# Altium schematic symbol library ARM_Libary_EURO.SchLib: 98 symbols
Pins are listed as number, name and electrical type; pins without a type are passive.

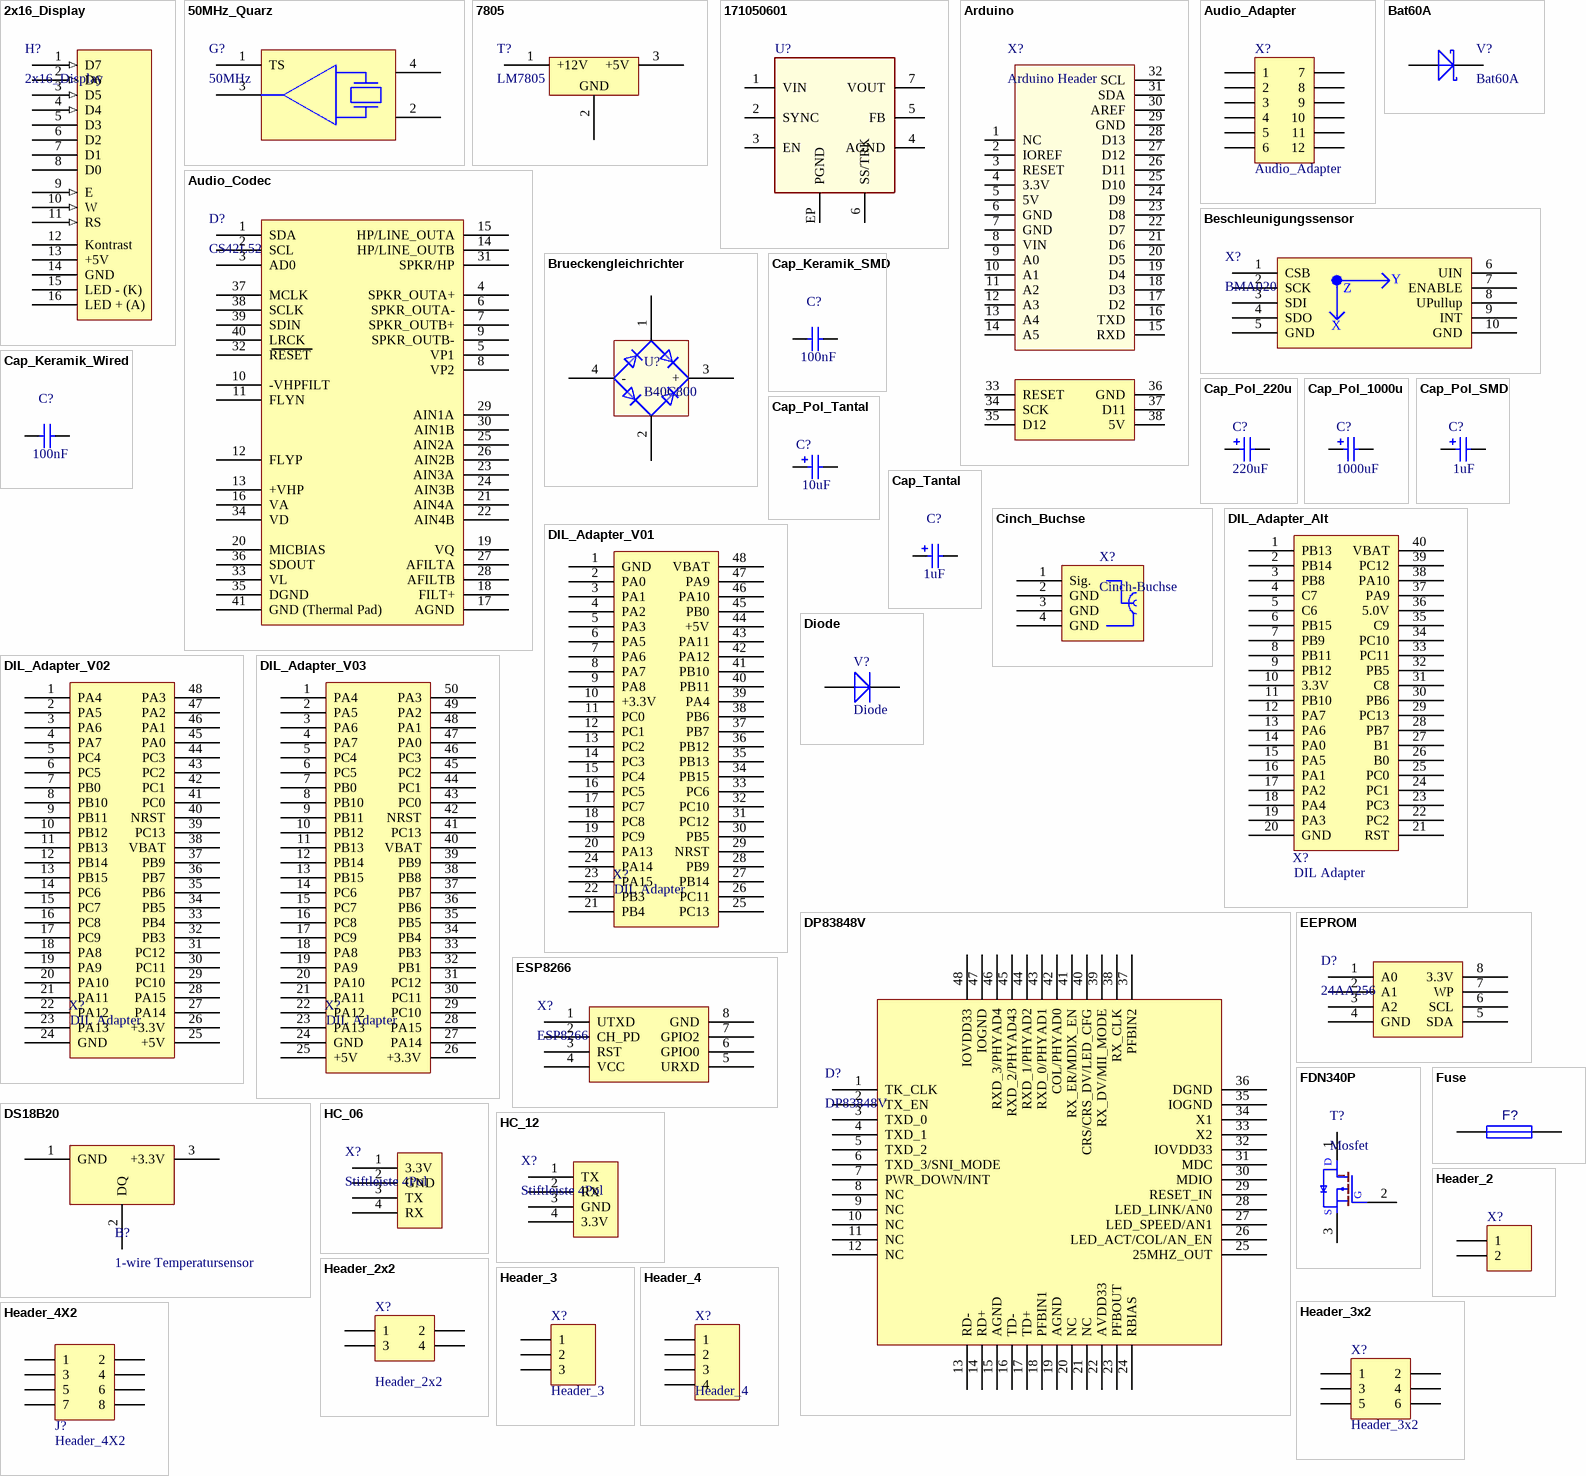
[diagram p0: symbols 2x16_Display to Header_4X2]

## 2x16_Display
designator H?
2 Zeilen Display
footprint LCD_Display
pins: 1 D7 (in), 2 D6 (in), 3 D5 (in), 4 D4 (in), 5 D3, 6 D2, 7 D1, 8 D0, 9 E (in), 10 W (in), 11 RS (in), 12 Kontrast (power), 13 +5V (power), 14 GND (power), 15 LED - (K), 16 LED + (A)

## 50MHz_Quarz
designator G?, comment 50MHz
50MHz Quarz
footprint 50MHz_Quarz (50MHz Quarz)
pins: 1 TS, 2, 3, 4

## 7805
designator T?, comment LM7805
5V Fixspannungsregler
footprint 7805 (+5V Fixspannungsregler)
pins: 1 +12V, 2 GND, 3 +5V

## 171050601
designator U?
VDRM Variable Step Down Regulator Module, TO263-7EP; PartNumber: 171050601; OutputCurrent: 5A; InputVoltage: 6-36 V(DC); PublishedDate: Aug 2016; Publisher: Wurth Elektronik; ComponentLink1Description: Manufacturer; ComponentLink1URL: http://www.we-online.de; ComponentLink2Description: Datasheet; ComponentLink2URL: http://katalog.we-online.de/pm/datasheet/171050601.pdf; Size: TO263-7EP
footprint TO263-7EP (SMD, 7-Leads, Body 10.4x10.1mm (max), Pitch 1.27mm, IPC Medium Density)
footprint TO263-7EP (SMD, 7-Leads, Body 10.4x10.1mm (max), Pitch 1.27mm, IPC Medium Density)
pins: 1 VIN, 2 SYNC, 3 EN, 4 AGND, 5 FB, 6 SS/TRK, 7 VOUT, EP PGND

## Arduino
designator X?, comment Arduino Header
footprint Arduino
pins: 1 NC, 2 IOREF, 3 RESET, 4 3.3V, 5 5V, 6 GND, 7 GND, 8 VIN, 9 A0, 10 A1, 11 A2, 12 A3, 13 A4, 14 A5, 15 RXD, 16 TXD, 17 D2, 18 D3, 19 D4, 20 D5, 21 D6, 22 D7, 23 D8, 24 D9, 25 D10, 26 D11, 27 D12, 28 D13, 29 GND, 30 AREF, 31 SDA, 32 SCL, 33 RESET, 34 SCK, 35 D12, 36 GND, 37 D11, 38 5V

## Audio_Adapter
designator X?
Header, 6-Pin, Dual row; LatestRevisionDate: 17-Jul-2002; LatestRevisionNote: Re-released for DXP Platform.; Publisher: Altium Limited
footprint AUDIO_ADAPTER (Adapter-Connector)
signal-integrity model Connector
pins: 1, 2, 3, 4, 5, 6, 7, 8, 9, 10, 11, 12

## Audio_Codec
designator D?, comment CS42L52
Audio Controller
footprint Audio_Codec (QFN, 40-Leads, Body 6,0x6,0mm (max), Pitch 0,50mm, IPC Low Density)
pins: 1 SDA, 2 SCL, 3 AD0, 4 SPKR_OUTA+, 5 VP1, 6 SPKR_OUTA-, 7 SPKR_OUTB+, 8 VP2, 9 SPKR_OUTB-, 10 -VHPFILT, 11 FLYN, 12 FLYP, 13 +VHP, 14 HP/LINE_OUTB, 15 HP/LINE_OUTA, 16 VA, 17 AGND, 18 FILT+, 19 VQ, 20 MICBIAS, 21 AIN4A, 22 AIN4B, 23 AIN3A, 24 AIN3B, 25 AIN2A, 26 AIN2B, 27 AFILTA, 28 AFILTB, 29 AIN1A, 30 AIN1B, 31 SPKR/HP, 32 RESET, 33 VL, 34 VD, 35 DGND, 36 SDOUT, 37 MCLK, 38 SCLK, 39 SDIN, 40 LRCK, 41 GND (Thermal Pad)

## Bat60A
designator V?
Diode
footprint BAT60A
footprint BAT254_Schottky
pins: 1, 2

## Beschleunigungssensor
designator X?, comment BMA020
3-Achsen Beschleunigungssensor-Modul; Hersteller: ELV Electronics
footprint Beschleunigungssensor (BMA020-Modul (ELV Electronics))
pins: 1 CSB, 2 SCK, 3 SDI, 4 SDO, 5 GND, 6 UIN, 7 ENABLE, 8 UPullup, 9 INT, 10 GND
text: Y; Z; X

## Brueckengleichrichter
designator U?, comment B40C800
Brueckengleichrichter
footprint Diodengleichrichter (B40C800)
pins: 1, 2, 3 +, 4 -

## Cap_Keramik_SMD
designator C?  value 100nF  (hidden comment: Cap_Keramik_SMD)
Capacitor_SMD; Published: 8-Jun-2000; LatestRevisionDate: 17-Jul-2002; LatestRevisionNote: Re-released for DXP Platform.; PackageReference: RAD-0.3; Publisher: Altium Limited
simulation model CAP (Capacitor)
signal-integrity model Cap
footprint 0805_CAP
footprint 0603_CAP
pins: 1, 2

## Cap_Keramik_Wired
designator C?  value 100nF  (hidden comment: Cap_Keramik_Wired)
Capacitor_Wired; Published: 8-Jun-2000; LatestRevisionDate: 17-Jul-2002; LatestRevisionNote: Re-released for DXP Platform.; PackageReference: RAD-0.3; Publisher: Altium Limited
simulation model CAP (Capacitor)
signal-integrity model Cap
footprint Cap_Wired (Capacitor, Ceramic, Thru-Hole, Dipped Radial; Body 4 x 2.5 mm (WxT) Pin Spacing 2.54 mm (typ))
pins: 1, 2

## Cap_Pol_220u
designator C?  value 220uF  (hidden comment: Cap_Pol_220u)
Polarized Capacitor 220µF/16V; Published: 8-Jun-2000; LatestRevisionDate: 17-Jul-2002; LatestRevisionNote: Re-released for DXP Platform.; PackageReference: RB7.6-15; Publisher: Altium Limited
simulation model CAP (Capacitor)
signal-integrity model Cap Pol
footprint CAPPOL_220uF (CAP 220uF)
pins: 1, 2
1 alternate drawing of the same symbol

## Cap_Pol_1000u
designator C?  value 1000uF  (hidden comment: Cap_Pol_1000u)
Polarized Capacitor 1000µF/16V; Published: 8-Jun-2000; LatestRevisionDate: 17-Jul-2002; LatestRevisionNote: Re-released for DXP Platform.; PackageReference: RB7.6-15; Publisher: Altium Limited
footprint Polyfuse
pins: 1, 2
1 alternate drawing of the same symbol

## Cap_Pol_SMD
designator C?  value 1uF  (hidden comment: Cap_Pol_SMD)
Polarized Capacitor SMD; Published: 8-Jun-2000; LatestRevisionDate: 17-Jul-2002; LatestRevisionNote: Re-released for DXP Platform.; PackageReference: RB7.6-15; Publisher: Altium Limited
simulation model CAP (Capacitor)
signal-integrity model Cap Pol
footprint 1411_Cap_Pol
footprint 100µF_16V_Kondensator
footprint CAP_POL_SMD_1500uF (Aluminum Electrolytic Capacitor, Body 17,00x17,00x17,00mm, IPC Low Density)
pins: 1, 2
1 alternate drawing of the same symbol

## Cap_Pol_Tantal
designator C?  value 10uF  (hidden comment: Cap_Pol_Tantal)
Polarized Capacitor; Published: 8-Jun-2000; LatestRevisionDate: 17-Jul-2002; LatestRevisionNote: Re-released for DXP Platform.; PackageReference: RB7.6-15; Publisher: Altium Limited
footprint 1411_Cap_Pol_Tantal
pins: 1, 2
1 alternate drawing of the same symbol

## Cap_Tantal
designator C?, comment value 1uF  (hidden comment: Cap Tantal)
Capacitor; Published: 8-Jun-2000; LatestRevisionDate: 17-Jul-2002; LatestRevisionNote: Re-released for DXP Platform.; PackageReference: RAD-0.3; Publisher: Altium Limited
simulation model CAP (Capacitor)
signal-integrity model Cap
footprint Cap_Pol_Tantal (Capacitor, Electrolytic, Radial; Body 5 x 11 mm (Dia.xH typ); Pin Spacing 2 mm (typ))
pins: 1, 2

## Cinch_Buchse
designator X?, comment Cinch-Buchse
Cinch Buchse Single
footprint Audio_Cinch (Audio Cinch Buchse)
pins: 1 Sig., 2 GND, 3 GND, 4 GND

## DIL_Adapter_Alt
designator X?, comment DIL Adapter
DIL Adapter Alt
footprint DIL_Adapter_Alt
pins: 1 PB13, 2 PB14, 3 PB8, 4 C7, 5 C6, 6 PB15, 7 PB9, 8 PB11, 9 PB12, 10 3.3V, 11 PB10, 12 PA7, 13 PA6, 14 PA0, 15 PA5, 16 PA1, 17 PA2, 18 PA4, 19 PA3, 20 GND, 21 RST, 22 PC2, 23 PC3, 24 PC1, 25 PC0, 26 B0, 27 B1, 28 PB7, 29 PC13, 30 PB6, 31 C8, 32 PB5, 33 PC11, 34 PC10, 35 C9, 36 5.0V, 37 PA9, 38 PA10, 39 PC12, 40 VBAT

## DIL_Adapter_V01
designator X?, comment DIL Adapter
footprint DIL_Adapter_V01
pins: 1 GND, 2 PA0, 3 PA1, 4 PA2, 5 PA3, 6 PA5, 7 PA6, 8 PA7, 9 PA8, 10 +3.3V, 11 PC0, 12 PC1, 13 PC2, 14 PC3, 15 PC4, 16 PC5, 17 PC7, 18 PC8, 19 PC9, 20 PA13, 21 PB4, 22 PB3, 23 PA15, 24 PA14, 25 PC13, 26 PC11, 27 PB14, 28 PB9, 29 NRST, 30 PB5, 31 PC12, 32 PC10, 33 PC6, 34 PB15, 35 PB13, 36 PB12, 37 PB7, 38 PB6, 39 PA4, 40 PB11, 41 PB10, 42 PA12, 43 PA11, 44 +5V, 45 PB0, 46 PA10, 47 PA9, 48 VBAT

## DIL_Adapter_V02
designator X?, comment DIL Adapter
DIL Adapter 48 Pin
footprint DIL_Adapter_V02 (DIL_Adapter)
pins: 1 PA4, 2 PA5, 3 PA6, 4 PA7, 5 PC4, 6 PC5, 7 PB0, 8 PB10, 9 PB11, 10 PB12, 11 PB13, 12 PB14, 13 PB15, 14 PC6, 15 PC7, 16 PC8, 17 PC9, 18 PA8, 19 PA9, 20 PA10, 21 PA11, 22 PA12, 23 PA13, 24 GND, 25 +5V, 26 +3.3V, 27 PA14, 28 PA15, 29 PC10, 30 PC11, 31 PC12, 32 PB3, 33 PB4, 34 PB5, 35 PB6, 36 PB7, 37 PB9, 38 VBAT, 39 PC13, 40 NRST, 41 PC0, 42 PC1, 43 PC2, 44 PC3, 45 PA0, 46 PA1, 47 PA2, 48 PA3

## DIL_Adapter_V03
designator X?, comment DIL Adapter
DIL Adapter 50 Pin
footprint DIL_Adapter_V03 (DIL_Adapter)
pins: 1 PA4, 2 PA5, 3 PA6, 4 PA7, 5 PC4, 6 PC5, 7 PB0, 8 PB10, 9 PB11, 10 PB12, 11 PB13, 12 PB14, 13 PB15, 14 PC6, 15 PC7, 16 PC8, 17 PC9, 18 PA8, 19 PA9, 20 PA10, 21 PA11, 22 PA12, 23 PA13, 24 GND, 25 +5V, 26 +3.3V, 27 PA14, 28 PA15, 29 PC10, 30 PC11, 31 PC12, 32 PB1, 33 PB3, 34 PB4, 35 PB5, 36 PB6, 37 PB7, 38 PB8, 39 PB9, 40 VBAT, 41 PC13, 42 NRST, 43 PC0, 44 PC1, 45 PC2, 46 PC3, 47 PA0, 48 PA1, 49 PA2, 50 PA3

## Diode
designator V?
Schottky Diode; Published: 8-Jun-2000; LatestRevisionDate: 17-Jul-2002; LatestRevisionNote: Re-released for DXP Platform.; PackageReference: SMB; Publisher: Altium Limited; Code_JEDEC: DO-214-AA
footprint Diode (Diode, Axial; Body 5.2 x 2.7 mm (LxDia. max), Lead Dia. 0.86 mm (max))
pins: 1 A, 2 K

## DP83848V
designator D?
Ethernet Controller
footprint Ethernet_Controller (DP83848VYB)
pins: 1 TK_CLK, 2 TX_EN, 3 TXD_0, 4 TXD_1, 5 TXD_2, 6 TXD_3/SNI_MODE, 7 PWR_DOWN/INT, 8 NC, 9 NC, 10 NC, 11 NC, 12 NC, 13 RD-, 14 RD+, 15 AGND, 16 TD-, 17 TD+, 18 PFBIN1, 19 AGND, 20 NC, 21 NC, 22 AVDD33, 23 PFBOUT, 24 RBIAS, 25 25MHZ_OUT, 26 LED_ACT/COL/AN_EN, 27 LED_SPEED/AN1, 28 LED_LINK/AN0, 29 RESET_IN, 30 MDIO, 31 MDC, 32 IOVDD33, 33 X2, 34 X1, 35 IOGND, 36 DGND, 37 PFBIN2, 38 RX_CLK, 39 RX_DV/MII_MODE, 40 CRS/CRS_DV/LED_CFG, 41 RX_ER/MDIX_EN, 42 COL/PHYAD0, 43 RXD_0/PHYAD1, 44 RXD_1/PHYAD2, 45 RXD_2/PHYAD43, 46 RXD_3/PHYAD4, 47 IOGND, 48 IOVDD33

## DS18B20
designator B?, comment 1-wire Temperatursensor
Temperatursensor
footprint TO_92 (TO, Flat Index; 3 In-Line, Axial Leads; Body Dia. 5.1mm; Leads 0.48 x 0.48 mm (max))
pins: 1 GND, 2 DQ, 3 +3.3V

## EEPROM
designator D?, comment 24AA256
32kx8 EEPROM
footprint PDIP8 (EEPROM)
pins: 1 A0, 2 A1, 3 A2, 4 GND, 5 SDA, 6 SCL, 7 WP, 8 3.3V

## ESP8266
designator X?
W-LAN Modul
footprint ESP8266
pins: 1 UTXD, 2 CH_PD, 3 RST, 4 VCC, 5 URXD, 6 GPIO0, 7 GPIO2, 8 GND

## FDN340P
designator T?, comment Mosfet
P-Kanal Mosfet
footprint SOT_23 (SOT23, 3-Leads, Body 2,90x2,30mm, Pitch 0,95mm, IPC Medium Density)
pins: 1 D, 2 G, 3 S

## Fuse
designator F?  (value not drawn)
Published: 8-Jun-2000; LatestRevisionDate: 17-Jul-2002; LatestRevisionNote: Re-released for DXP Platform.; PackageReference: PIN-W2/E2.8; Publisher: Altium Limited
footprint Polyfuse
pins: 1, 2

## HC_06
designator X?, comment Stiftleiste 4Pol
footprint UART_Interface
pins: 1 3.3V, 2 GND, 3 TX, 4 RX

## HC_12
designator X?, comment Stiftleiste 4Pol
footprint HC_12
pins: 1 TX, 2 RX, 3 GND, 4 3.3V

## Header_2
designator X?, comment Header  (value not drawn)
Header, 2-Pin; LatestRevisionDate: 17-Jul-2002; LatestRevisionNote: Re-released for DXP Platform.; Publisher: Altium Limited
signal-integrity model Connector
footprint HDR1X2 (Connector; Header; 2 Position)
pins: 1, 2

## Header_2x2
designator X?
Header, 3x2-Pin; LatestRevisionDate: 17-Jul-2002; LatestRevisionNote: Re-released for DXP Platform.; Publisher: Altium Limited
signal-integrity model Connector
footprint HDR2X2 (Connector; Header; 3x2 Position)
pins: 1, 2, 3, 4

## Header_3
designator X?
Header, 3-Pin; LatestRevisionDate: 17-Jul-2002; LatestRevisionNote: Re-released for DXP Platform.; Publisher: Altium Limited
signal-integrity model Connector
footprint HDR1X3 (Connector; Header; 3 Position)
pins: 1, 2, 3

## Header_3x2
designator X?
Header, 3x2-Pin; LatestRevisionDate: 17-Jul-2002; LatestRevisionNote: Re-released for DXP Platform.; Publisher: Altium Limited
signal-integrity model Connector
footprint HDR2X3 (Connector; Header; 3x2 Position)
pins: 1, 2, 3, 4, 5, 6

## Header_4
designator X?
Header, 3-Pin; LatestRevisionDate: 17-Jul-2002; LatestRevisionNote: Re-released for DXP Platform.; Publisher: Altium Limited
signal-integrity model Connector
footprint HDR1X4 (Connector; Header; 3 Position)
pins: 1, 2, 3, 4

## Header_4X2
designator J?
Header, 4-Pin, Dual row; LatestRevisionDate: 17-Jul-2002; LatestRevisionNote: Re-released for DXP Platform.; Publisher: Altium Limited
footprint HDR2X4 (Connector; Header; 4x2 Position)
signal-integrity model Connector
pins: 1, 2, 3, 4, 5, 6, 7, 8

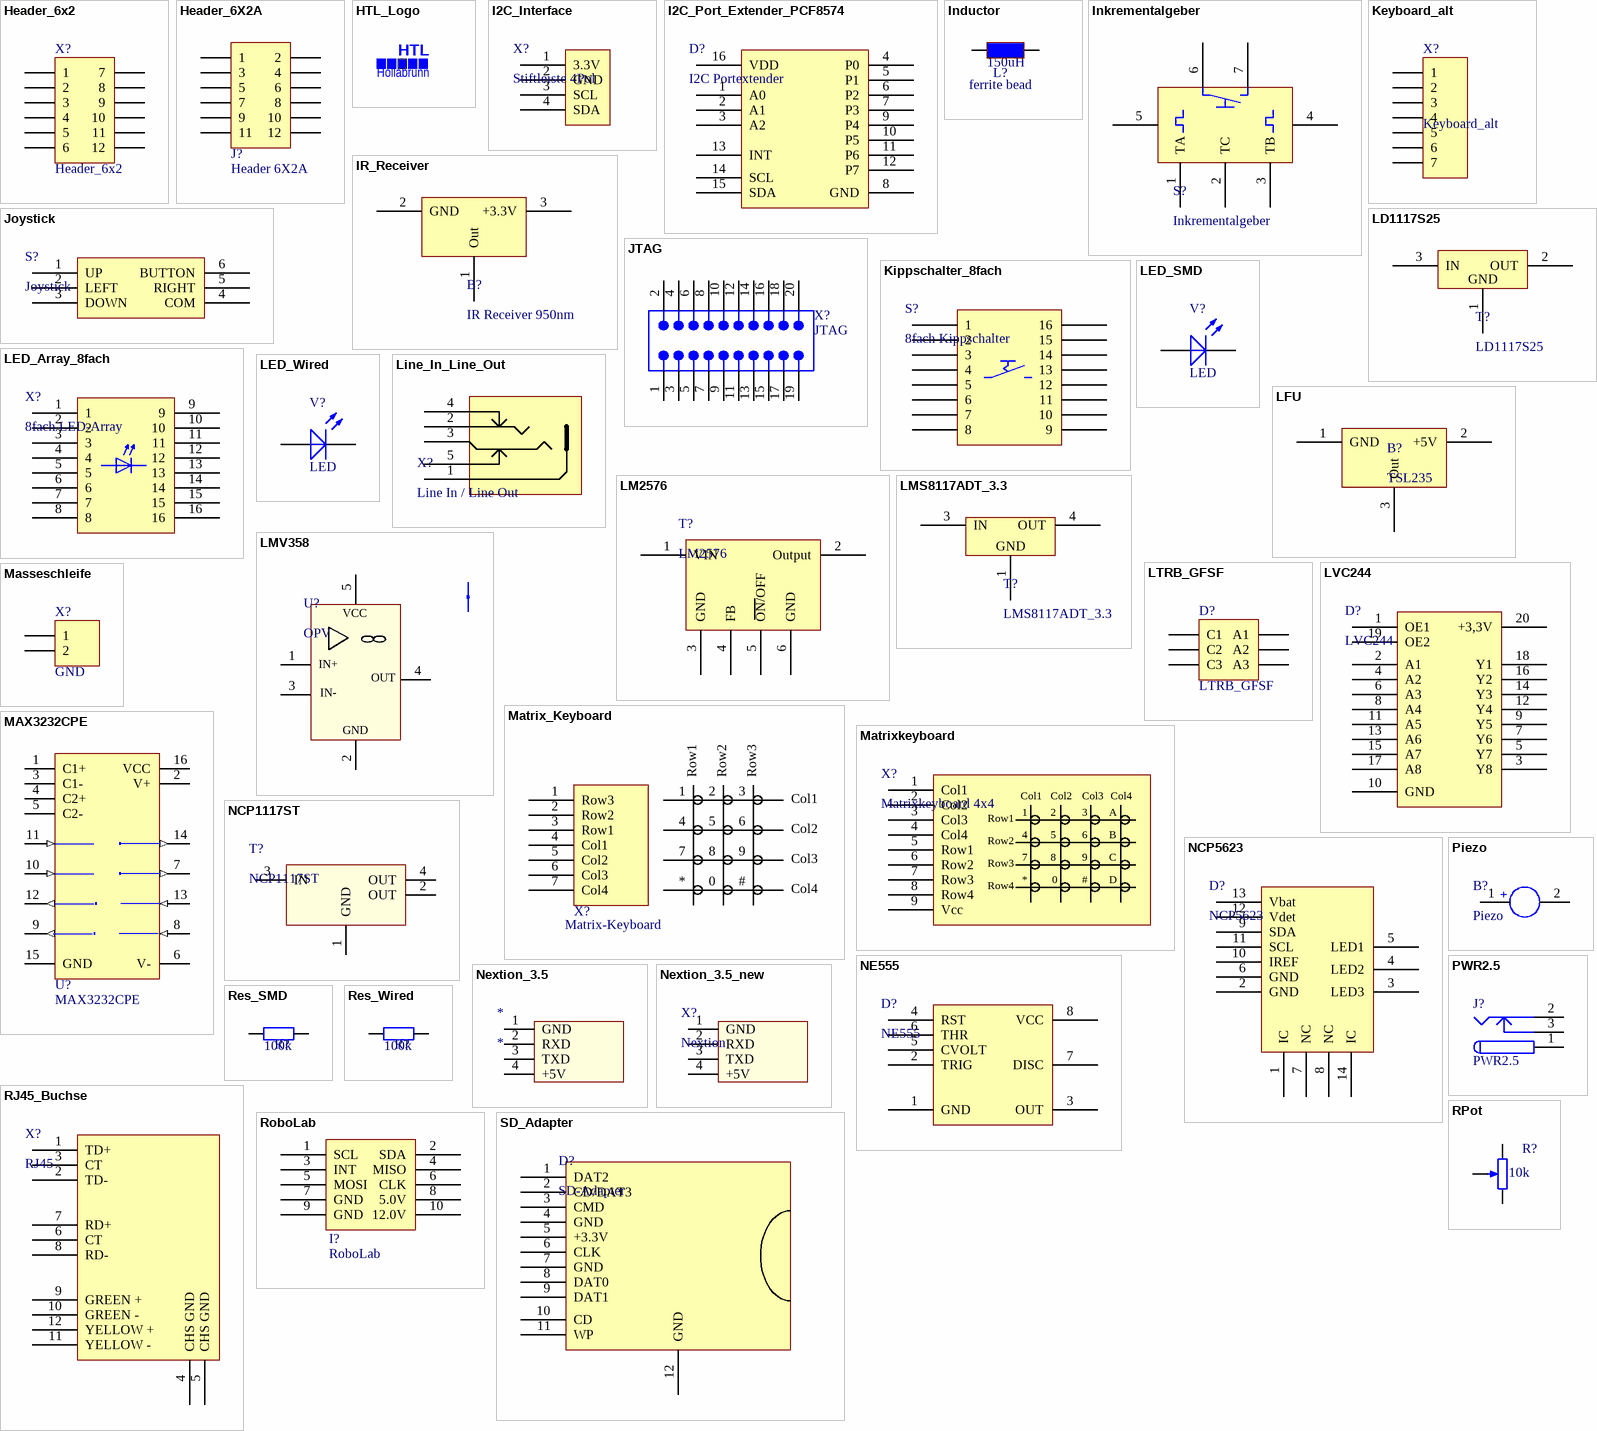
[diagram p1: symbols Header_6x2 to SD_Adapter]

## Header_6x2
designator X?
Header, 6-Pin, Dual row; LatestRevisionDate: 17-Jul-2002; LatestRevisionNote: Re-released for DXP Platform.; Publisher: Altium Limited
footprint AUDIO_ADAPTER (Adapter-Connector)
signal-integrity model Connector
pins: 1, 2, 3, 4, 5, 6, 7, 8, 9, 10, 11, 12

## Header_6X2A
designator J?, comment Header 6X2A
Header, 6-Pin, Dual row; LatestRevisionDate: 17-Jul-2002; LatestRevisionNote: Re-released for DXP Platform.; Publisher: Altium Limited
footprint HDR2X6 (Connector; Header; 6x2 Position)
signal-integrity model Connector
pins: 1, 2, 3, 4, 5, 6, 7, 8, 9, 10, 11, 12

## HTL_Logo
designator A?, comment HTL Hollabrunn  (value not drawn)
footprint HTL_Logo
text: HTL; Hollabrunn

## I2C_Interface
designator X?, comment Stiftleiste 4Pol
footprint I2C_Interface
pins: 1 3.3V, 2 GND, 3 SCL, 4 SDA

## I2C_Port_Extender_PCF8574
designator D?, comment I2C Portextender
I2C Portextender (8fach I/O)
footprint PCF8574 (I2C Portextender)
pins: 1 A0, 2 A1, 3 A2, 4 P0, 5 P1, 6 P2, 7 P3, 8 GND, 9 P4, 10 P5, 11 P6, 12 P7, 13 INT, 14 SCL, 15 SDA, 16 VDD

## Inductor
designator L?, comment ferrite bead  value 150uH
Inductor; Code_IEC: 1005; Published: 8-Jun-2000; LatestRevisionDate: 17-Jul-2002; LatestRevisionNote: Re-released for DXP Platform.; PackageReference: 0402-A; Publisher: Altium Limited; Code_JEITA: 0402
simulation model INDUCTOR (Inductor)
signal-integrity model Inductor
footprint Inductor_SMD (Precision Wire Wound Inductor, 2-Leads, Body 12,50x12,50mm, IPC Medium Density)
pins: 1, 2

## Inkrementalgeber
designator S?
footprint Inkrementalgeber
pins: 1 TA, 2 TC, 3 TB, 4, 5, 6, 7

## IR_Receiver
designator B?, comment IR Receiver 950nm
IR-Empfänger; Anbieter: Farnell
footprint TSOP341
pins: 1 Out, 2 GND, 3 +3.3V

## Joystick
designator S?
footprint Joystick
pins: 1 UP, 2 LEFT, 3 DOWN, 4 COM, 5 RIGHT, 6 BUTTON

## JTAG
designator X?
Flat Cable Connector (IDC), Low-Profile Male Header, Straight Solder Pin, 20 Contacts, Performance Level 2; PCB_Layout: Complies with manufacturer's recommendation.; DrillSize: Corresponds to nominal value.; Published: 15-Nov-2004; DatasheetDocument: Sep-2003; PackageDocument: 01-Feb-2000; PackageReference: 918520x324; Publisher: Altium Limited; ComponentLink1Description: Manufacturer Link; ComponentLink1URL: http://www.harting.com/; ComponentLink2Description: Selection Guide; ComponentLink2URL: http://www.harting.com/imperia/md/content/steckverbinderundsystemkomponenten/folder/interface_engl_chapter_09.pdf
footprint JTAG_90Grad (JTAG Interface)
pins: 1, 2, 3, 4, 5, 6, 7, 8, 9, 10, 11, 12, 13, 14, 15, 16, 17, 18, 19, 20

## Keyboard_alt
designator X?
Header, 7-Pin; LatestRevisionDate: 17-Jul-2002; LatestRevisionNote: Re-released for DXP Platform.; Publisher: Altium Limited
signal-integrity model Connector
footprint Keyboard (Connector; Header; 7 Position)
pins: 1, 2, 3, 4, 5, 6, 7

## Kippschalter_8fach
designator S?, comment 8fach Kippschalter
footprint DIP_16
pins: 1, 2, 3, 4, 5, 6, 7, 8, 9, 10, 11, 12, 13, 14, 15, 16

## LD1117S25
designator T?
2,5V Fixspannungsregler
footprint LD1117S25
pins: 1 GND, 2 OUT, 3 IN

## LED_Array_8fach
designator X?, comment 8fach LED-Array
DIL-LEDs auf Buchsenleiste, 8fach
footprint LED_Array (8fach-LED Array)
pins: 1, 2, 3, 4, 5, 6, 7, 8, 9, 10, 11, 12, 13, 14, 15, 16

## LED_SMD
designator V?, comment LED
Typical RED, GREEN, YELLOW, AMBER GaAs LED; Published: 8-Jun-2000; LatestRevisionDate: 17-Jul-2002; LatestRevisionNote: Re-released for DXP Platform.; PackageDocument: Feb-2002; PackageReference: 3.2X1.6X1.1; Publisher: Altium Limited
footprint 0805_LED
pins: 1 A, 2 K

## LED_Wired
designator V?, comment LED
Typical RED, GREEN, YELLOW, AMBER GaAs LED; Published: 8-Jun-2000; LatestRevisionDate: 17-Jul-2002; LatestRevisionNote: Re-released for DXP Platform.; PackageDocument: Feb-2002; PackageReference: 3.2X1.6X1.1; Publisher: Altium Limited
footprint LED_Wired (Connector; Header; 2 Position)
pins: 1 A, 2 K

## LFU
designator B?, comment TSL235
Licht/Frequenz - Umwandler
footprint LFU
pins: 1 GND, 2 +5V, 3 Out

## Line_In_Line_Out
designator X?, comment Line In / Line Out
3,5mm Klinke (Line In/Line Out)
footprint 3.5mm_Klinke
pins: 1, 2, 3, 4, 5

## LM2576
designator T?
Step-Down-Regler
footprint TO_263 (D2-PAK, 6-Pads, Body 8,9x9,9mm (max), IPC Low Density)
pins: 1 VIN, 2 Output, 3 GND, 4 FB, 5 ON/OFF, 6 GND

## LMS8117ADT_3.3
designator T?
3.3V Fixspannungsregler
footprint LMS8117A (3.3V Fixspannungsregler)
pins: 1 GND, 3 IN, 4 OUT

## LMV358
designator U?, comment OPV
footprint OPV_LMV358 (SOT23, 5-Leads, Body 1,86x2,10mm, Pitch 0,65mm, IPC Medium Density)
pins: 1 +, 2 GND, 3 -, 4 OUT, 5 VCC
text: IN+; IN-

## LTRB_GFSF
designator D?
LTRB-GFSF; LatestRevisionDate: 17-Jul-2002; LatestRevisionNote: Re-released for DXP Platform.; Publisher: Altium Limited
footprint LTRB_GFSF (SOJ, 6-Leads, Body 3,50x4,25mm, Pitch 1,10mm, IPC Low Density)
pins: 1 C1, 2 C2, 3 C3, 4 A3, 5 A2, 6 A1

## LVC244
designator D?
Treiberbaustein
footprint SOP127P1030X265_20N (SOP, 20-Leads, Body 13,0x7,6mm (max), Pitch 1,27mm, IPC Medium Density)
pins: 1 OE1, 2 A1, 3 Y8, 4 A2, 5 Y7, 6 A3, 7 Y6, 8 A4, 9 Y5, 10 GND, 11 A5, 12 Y4, 13 A6, 14 Y3, 15 A7, 16 Y2, 17 A8, 18 Y1, 19 OE2, 20 +3,3V

## Masseschleife
designator X?, comment GND
Header, 2-Pin; LatestRevisionDate: 17-Jul-2002; LatestRevisionNote: Re-released for DXP Platform.; Publisher: Altium Limited
signal-integrity model Connector
footprint HDR1X2 (Connector; Header; 2 Position)
pins: 1, 2

## Matrix_Keyboard
designator X?, comment Matrix-Keyboard
footprint Keyboard (Connector; Header; 7 Position)
pins: 1 Row3, 2 Row2, 3 Row1, 4 Col1, 5 Col2, 6 Col3, 7 Col4
text: 8; 9; 0; #

## Matrixkeyboard
designator X?, comment Matrixkeyboard 4x4
4x4 Matrixkeyboard inkl. +3.3V
footprint Matrixkeyboard
pins: 1 Col1, 2 Col2, 3 Col3, 4 Col4, 5 Row1, 6 Row2, 7 Row3, 8 Row4, 9 Vcc
text: A; B; C; 0; #; D

## MAX3232CPE
designator U?
3.0V TO 5.5V, Low-Power, up to 1Mbps, True RS-232 Transceiver Using Four 0.1µF External Capacitor; Published: 16-Jan-2001; LatestRevisionDate: 06-Jun-2005; LatestRevisionNote: Stylized 3D Model Added.; DatasheetVersion: Mar-1999; PackageVersion: Aug-2000; PackageReference: PE16; Publisher: Altium Limited; PackageDescription: DIP; 16 Leads; Row Spacing 7.62 mm; Pitch 2.54 mm; Code_JEDEC: MS-001-BB; ComponentLink1Description: Manufacturer Link; ComponentLink1URL: http://www.maxim-ic.com/; ComponentLink2Description: Datasheet; ComponentLink2URL: http://pdfserv.maxim-ic.com/en/ds/MAX3222-MAX3241.pdf
footprint DIP_16
pins: 1 C1+, 2 V+ (power), 3 C1-, 4 C2+, 5 C2-, 6 V- (power), 7 T2OUT (out), 8 R2IN (in), 9 R2OUT (out), 10 T2IN (in), 11 T1IN (in), 12 R1OUT (out), 13 R1IN (in), 14 T1OUT (out), 15 GND (power), 16 VCC (power)

## NCP1117ST
designator T?
5V Fixspannungsregler
footprint SOT_230 (SOT223, 4-Leads, Body 6,50x7,00mm (avg), Pitch 2,30mm, IPC Medium Density)
pins: 1 GND, 2 OUT, 3 IN, 4 OUT

## NCP5623
designator D?
footprint NCP5623 (TSOP, 14-Leads, Body 5,00x4,40mm, Pitch 0,65mm, IPC Medium Density)
pins: 1 IC, 2 GND, 3 LED3, 4 LED2, 5 LED1, 6 GND, 7 NC, 8 NC, 9 SDA, 10 IREF, 11 SCL, 12 Vdet, 13 Vbat, 14 IC

## NE555
designator D?
footprint PDIP8 (EEPROM)
pins: 1 GND, 2 TRIG, 3 OUT, 4 RST, 5 CVOLT, 6 THR, 7 DISC, 8 VCC

## Nextion_3.5
designator *
footprint Nextion_3.5
pins: 1 GND, 2 RXD, 3 TXD, 4 +5V

## Nextion_3.5_new
designator X?, comment Nextion
footprint Nextion_3.5_new
pins: 1 GND, 2 RXD, 3 TXD, 4 +5V

## Piezo
designator B?
Signalgeber
footprint Piezo
pins: 1, 2
text: +

## PWR2.5
designator J?
Low Voltage Power Supply Connector; Published: 17-Dec-2003; DatasheetDocument: 09-May-2002; Publisher: Altium Limited; ComponentLink1Description: Manufacturer Link; ComponentLink1URL: http://domino.kycon.com/internet/Products.html
footprint PowerJack
pins: 1 (power), 2 (power), 3 (power)

## Res_SMD
designator R?  value 100k  (hidden comment: Res_SMD)
Resistor; Published: 8-Jun-2000; LatestRevisionDate: 17-Jul-2002; LatestRevisionNote: Re-released for DXP Platform.; PackageReference: AXIAL-0.4; Publisher: Altium Limited
simulation model RESISTOR (Resistor)
signal-integrity model Res
footprint 0805_Res
footprint 0603_Res
pins: 1, 2

## Res_Wired
designator R?  value 100k  (hidden comment: Res_Wired)
Resistor; Published: 8-Jun-2000; LatestRevisionDate: 17-Jul-2002; LatestRevisionNote: Re-released for DXP Platform.; PackageReference: AXIAL-0.4; Publisher: Altium Limited
simulation model RESISTOR (Resistor)
signal-integrity model Res
footprint Widerstand (Semiconductor Resistor; 2 Leads)
pins: 1, 2

## RJ45_Buchse
designator X?, comment RJ45
Ethernet-Buchse
footprint RJ45 (Ethernet Buchse)
pins: 1 TD+, 2 TD-, 3 CT, 4 CHS GND, 5 CHS GND, 6 CT, 7 RD+, 8 RD-, 9 GREEN +, 10 GREEN -, 11 YELLOW -, 12 YELLOW +

## RoboLab
designator I?
footprint Robolab_Interface (Footprint not found)
pins: 1 SCL, 2 SDA, 3 INT, 4 MISO, 5 MOSI, 6 CLK, 7 GND, 8 5.0V, 9 GND, 10 12.0V

## RPot
designator R?  value 10k  (hidden comment: RPot)
Potentiometer; Sim Note: Enter the Resistance value and the set point into parameter fields.; Set Position: 0.5; Published: 8-Jun-2000; LatestRevisionDate: 17-Jul-2002; LatestRevisionNote: Re-released for DXP Platform.; PackageReference: VR5; Publisher: Altium Limited
simulation model POT (Potentiometer)
footprint Potentiometer
pins: 1 TOP, 2 BOT, 3 TAP
1 alternate drawing of the same symbol

## SD_Adapter
designator D?, comment SD-Adapter
SD-Slot
footprint SD_Adapter
pins: 1 DAT2, 2 CD/DAT3, 3 CMD, 4 GND, 5 +3.3V, 6 CLK, 7 GND, 8 DAT0, 9 DAT1, 10 CD, 11 WP, 12 GND

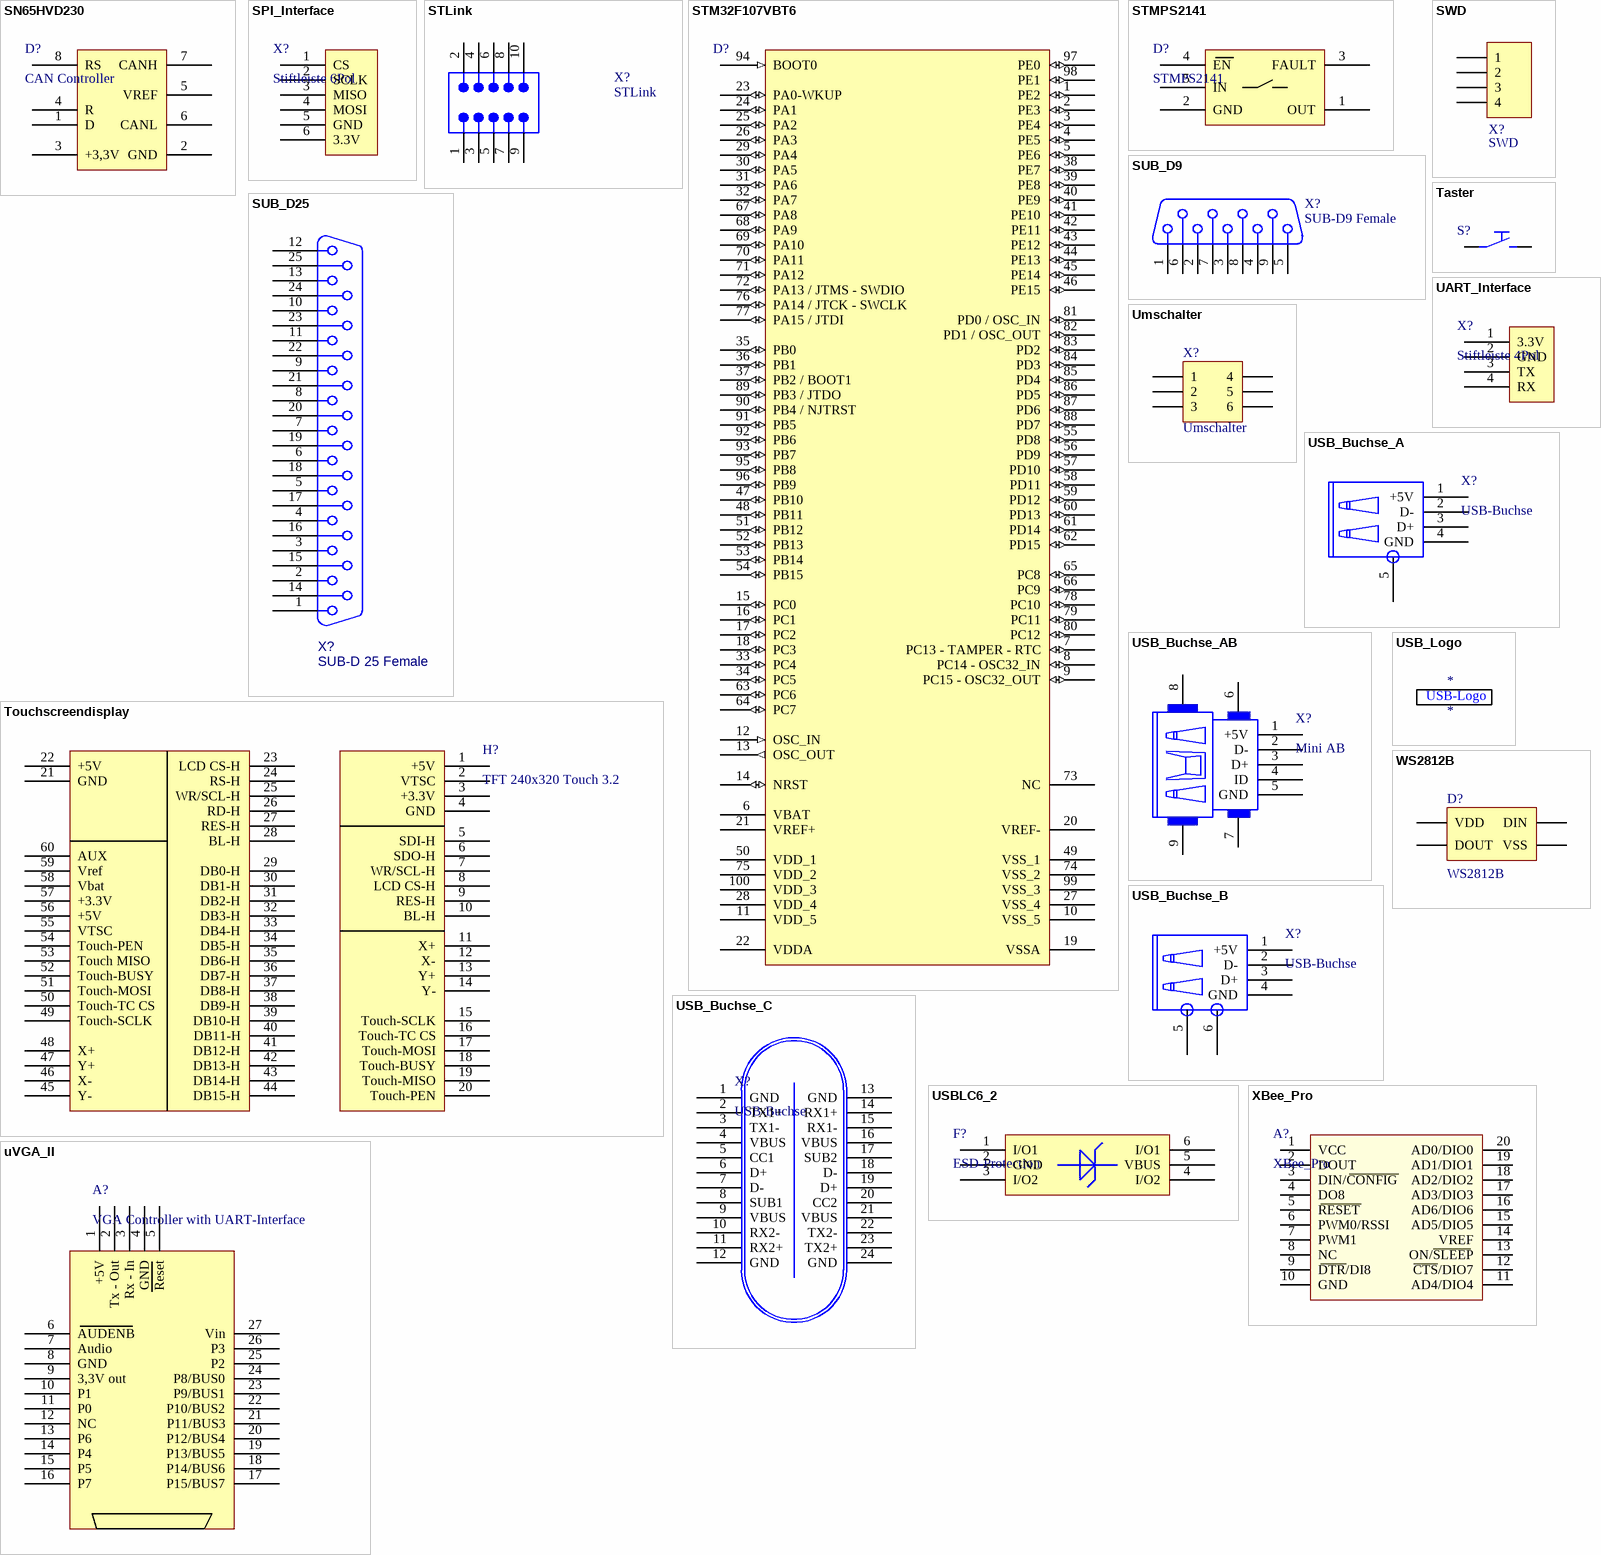
[diagram p2: symbols SN65HVD230 to XBee_Pro]

## SN65HVD230
designator D?, comment CAN Controller
footprint SN65HVD230
pins: 1 D, 2 GND, 3 +3,3V, 4 R, 5 VREF, 6 CANL, 7 CANH, 8 RS

## SPI_Interface
designator X?, comment Stiftleiste 6Pol
footprint SPI_Interface
pins: 1 CS, 2 SCLK, 3 MISO, 4 MOSI, 5 GND, 6 3.3V

## STLink
designator X?
Flat Cable Connector (IDC), Low-Profile Male Header, Straight Solder Pin, 20 Contacts, Performance Level 2; PCB_Layout: Complies with manufacturer's recommendation.; DrillSize: Corresponds to nominal value.; Published: 15-Nov-2004; DatasheetDocument: Sep-2003; PackageDocument: 01-Feb-2000; PackageReference: 918520x324; Publisher: Altium Limited; ComponentLink1Description: Manufacturer Link; ComponentLink1URL: http://www.harting.com/; ComponentLink2Description: Selection Guide; ComponentLink2URL: http://www.harting.com/imperia/md/content/steckverbinderundsystemkomponenten/folder/interface_engl_chapter_09.pdf
footprint STLink
pins: 1, 2, 3, 4, 5, 6, 7, 8, 9, 10

## STM32F107VBT6
designator D?, comment STM32F103VC  (value not drawn)
Cortex M3 Microprozessor; Hersteller: STMicroelectronics; Herstellerbezeichnung: STM32F107VBT6
footprint LQFP100
pins: 1 PE2 (io), 2 PE3 (io), 3 PE4 (io), 4 PE5 (io), 5 PE6 (io), 6 VBAT (power), 7 PC13 - TAMPER - RTC (io), 8 PC14 - OSC32_IN (io), 9 PC15 - OSC32_OUT (io), 10 VSS_5 (power), 11 VDD_5 (power), 12 OSC_IN (in), 13 OSC_OUT (out), 14 NRST (io), 15 PC0 (io), 16 PC1 (io), 17 PC2 (io), 18 PC3 (io), 19 VSSA (power), 20 VREF- (power), 21 VREF+ (power), 22 VDDA (power), 23 PA0-WKUP (io), 24 PA1 (io), 25 PA2 (io), 26 PA3 (io), 27 VSS_4 (power), 28 VDD_4 (power), 29 PA4 (io), 30 PA5 (io), 31 PA6 (io), 32 PA7 (io), 33 PC4 (io), 34 PC5 (io), 35 PB0 (io), 36 PB1 (io), 37 PB2 / BOOT1 (io), 38 PE7 (io), 39 PE8 (io), 40 PE9 (io), 41 PE10 (io), 42 PE11 (io), 43 PE12 (io), 44 PE13 (io), 45 PE14 (io), 46 PE15 (io), 47 PB10 (io), 48 PB11 (io), 49 VSS_1 (power), 50 VDD_1 (power), 51 PB12 (io), 52 PB13 (io), 53 PB14 (io), 54 PB15 (io), 55 PD8 (io), 56 PD9 (io), 57 PD10 (io), 58 PD11 (io), 59 PD12 (io), 60 PD13 (io), 61 PD14 (io), 62 PD15 (io), 63 PC6 (io), 64 PC7 (io), 65 PC8 (io), 66 PC9 (io), 67 PA8 (io), 68 PA9 (io), 69 PA10 (io), 70 PA11 (io), 71 PA12 (io), 72 PA13 / JTMS - SWDIO (io), 73 NC, 74 VSS_2 (power), 75 VDD_2 (power), 76 PA14 / JTCK - SWCLK (io), 77 PA15 / JTDI (io), 78 PC10 (io), 79 PC11 (io), 80 PC12 (io), 81 PD0 / OSC_IN (io), 82 PD1 / OSC_OUT (io), 83 PD2 (io), 84 PD3 (io), 85 PD4 (io), 86 PD5 (io), 87 PD6 (io), 88 PD7 (io), 89 PB3 / JTDO (io), 90 PB4 / NJTRST (io), 91 PB5 (io), 92 PB6 (io), 93 PB7 (io), 94 BOOT0 (in), 95 PB8 (io), 96 PB9 (io), 97 PE0 (io), 98 PE1 (io), 99 VSS_3 (power), 100 VDD_3 (power)

## STMPS2141
designator D?
Power Switch
footprint STMPS2141 (USB Powerswitch)
pins: 1 OUT, 2 GND, 3 FAULT, 4 EN, 5 IN

## SUB_D9
designator X?, comment SUB-D9 Female
PackageDocument: O; Positions: 9; Gender: Receptacle; Published: 15-Jun-2001; LatestRevisionDate: 17-Jul-2002; LatestRevisionNote: Re-released for DXP Platform.; DatasheetDocument: 1-Sep-1999; PackageReference: 788750; Publisher: Altium Limited; Orientation: Right Angle
signal-integrity model Connector
footprint SUBD_9 (SUBD-9 Buchse female)
pins: 1, 2, 3, 4, 5, 6, 7, 8, 9

## SUB_D25
designator X?, comment SUB-D 25 Female
footprint SUBD_25 (SUBD-25 Buchse)
pins: 1, 2, 3, 4, 5, 6, 7, 8, 9, 10, 11, 12, 13, 14, 15, 16, 17, 18, 19, 20, 21, 22, 23, 24, 25

## SWD
designator X?
Header, 4-Pin; LatestRevisionDate: 17-Jul-2002; LatestRevisionNote: Re-released for DXP Platform.; Publisher: Altium Limited
footprint HDR1X4_SWD (Footprint not found)
signal-integrity model Connector
footprint HDR1X4_SWD
pins: 1, 2, 3, 4

## Taster
designator S?  (value not drawn)
Taster, Schließer
footprint Printtaster (Printtaster - 4polig)
pins: 1, 2

## Touchscreendisplay
designator H?, comment TFT 240x320 Touch 3.2
Display
footprint TFT_240x320_Touch 3.2 (Touchscreen)
pins: 1 +5V, 2 VTSC, 3 +3.3V, 4 GND, 5 SDI-H, 6 SDO-H, 7 WR/SCL-H, 8 LCD CS-H, 9 RES-H, 10 BL-H, 11 X+, 12 X-, 13 Y+, 14 Y-, 15 Touch-SCLK, 16 Touch-TC CS, 17 Touch-MOSI, 18 Touch-BUSY, 19 Touch-MISO, 20 Touch-PEN, 21 GND, 22 +5V, 23 LCD CS-H, 24 RS-H, 25 WR/SCL-H, 26 RD-H, 27 RES-H, 28 BL-H, 29 DB0-H, 30 DB1-H, 31 DB2-H, 32 DB3-H, 33 DB4-H, 34 DB5-H, 35 DB6-H, 36 DB7-H, 37 DB8-H, 38 DB9-H, 39 DB10-H, 40 DB11-H, 41 DB12-H, 42 DB13-H, 43 DB14-H, 44 DB15-H, 45 Y-, 46 X-, 47 Y+, 48 X+, 49 Touch-SCLK, 50 Touch-TC CS, 51 Touch-MOSI, 52 Touch-BUSY, 53 Touch MISO, 54 Touch-PEN, 55 VTSC, 56 +5V, 57 +3.3V, 58 Vbat, 59 Vref, 60 AUX

## UART_Interface
designator X?, comment Stiftleiste 4Pol
footprint UART_Interface
pins: 1 3.3V, 2 GND, 3 TX, 4 RX

## Umschalter
designator X?
Header, 3x2-Pin; LatestRevisionDate: 17-Jul-2002; LatestRevisionNote: Re-released for DXP Platform.; Publisher: Altium Limited
signal-integrity model Connector
footprint HDR2X3 (Connector; Header; 3x2 Position)
pins: 1, 2, 3, 4, 5, 6

## USB_Buchse_A
designator X?, comment USB-Buchse
USB Buchse (A)
footprint USB_A (USB Buchse A)
pins: 1 +5V, 2 D-, 3 D+, 4 GND, 5 GND

## USB_Buchse_AB
designator X?, comment Mini AB
USB-Buchse (AB)
footprint Mini_USB
pins: 1 +5V, 2 D-, 3 D+, 4 ID, 5 GND, 6, 7, 8, 9

## USB_Buchse_B
designator X?, comment USB-Buchse
USB Buchse (B)
footprint USB_B (USB-B_Buchse)
pins: 1 +5V, 2 D-, 3 D+, 4 GND, 5 GND, 6 GND

## USB_Buchse_C
designator X?, comment USB-Buchse
USB Buchse (C)
footprint USB_C (SON, 24-Leads, Body 9,93x8,22mm, Pitch 0,50mm, IPC Medium Density)
pins: 1 GND, 2 TX1+, 3 TX1-, 4 VBUS, 5 CC1, 6 D+, 7 D-, 8 SUB1, 9 VBUS, 10 RX2-, 11 RX2+, 12 GND, 13 GND, 14 RX1+, 15 RX1-, 16 VBUS, 17 SUB2, 18 D-, 19 D+, 20 CC2, 21 VBUS, 22 TX2-, 23 TX2+, 24 GND

## USB_Logo
designator *
Logo
footprint USB_Logo (USB-Logo (PCB))
text: USB-Logo

## USBLC6_2
designator F?, comment ESD-Protection
Schutz vor entladungen über USB-Buchse
footprint USBLC6_2 (USB - ESD Schutz)
pins: 1 I/O1, 2 GND, 3 I/O2, 4 I/O2, 5 VBUS, 6 I/O1

## uVGA_II
designator A?, comment VGA Controller with UART-Interface
VGA Controller with SD-Card Slot and Audio Output; Anbieter: 4D Systems; Homepage: http://www.4dsystems.com.au/prod.php?id=131
footprint VGA_Controller (Footprint not found)
pins: 1 +5V, 2 Tx - Out, 3 Rx - In, 4 GND, 5 Reset, 6 AUDENB, 7 Audio, 8 GND, 9 3,3V out, 10 P1, 11 P0, 12 NC, 13 P6, 14 P4, 15 P5, 16 P7, 17 P15/BUS7, 18 P14/BUS6, 19 P13/BUS5, 20 P12/BUS4, 21 P11/BUS3, 22 P10/BUS2, 23 P9/BUS1, 24 P8/BUS0, 25 P2, 26 P3, 27 Vin

## WS2812B
designator D?
LatestRevisionDate: 17-Jul-2002; LatestRevisionNote: Re-released for DXP Platform.; Publisher: Altium Limited
footprint WS2812B (SOP, 4-Leads, Body 5,00x3,40mm, Pitch 3,30mm, IPC Medium Density)
pins: 1 VDD, 2 DOUT, 3 VSS, 4 DIN

## XBee_Pro
designator A?
Funkmodul
footprint XBee_Pro
pins: 1 VCC, 2 DOUT, 3 DIN/CONFIG, 4 DO8, 5 RESET, 6 PWM0/RSSI, 7 PWM1, 8 NC, 9 DTR/DI8, 10 GND, 11 AD4/DIO4, 12 CTS/DIO7, 13 ON/SLEEP, 14 VREF, 15 AD5/DIO5, 16 AD6/DIO6, 17 AD3/DIO3, 18 AD2/DIO2, 19 AD1/DIO1, 20 AD0/DIO0